# EAGLE library part STLZ_1550/9GV (library con-ptr-stlz1550)
HEADER
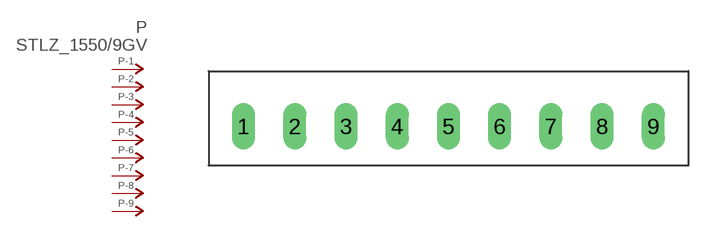
[diagram p2: symbol with the pads of PAC-09; footprint PAC-09]

Designator prefix P; gates -1=P-NV -2=P-N -3=P-N -4=P-N -5=P-N -6=P-N -7=P-N -8=P-N -9=P-N

## STLZ_1550/9GV  [PAC-09]
1  -1:P  pas
2  -2:P  pas
3  -3:P  pas
4  -4:P  pas
5  -5:P  pas
6  -6:P  pas
7  -7:P  pas
8  -8:P  pas
9  -9:P  pas

## Footprint PAC-09 (pad centres in mm)
HEADER
drill 1.15 long: 1 -15.24,0; 2 -11.43,0; 3 -7.62,0; 4 -3.81,0; 5 0,0; 6 3.81,0; 7 7.62,0; 8 11.43,0; 9 15.24,0